# Altium footprint library SOT-89.PcbLib: 1 footprints
Each footprint in its own frame and in the unit in brackets; x right, y up, seen from the top. Pads: shape width x height; smd on the part's side, far side on the other; paste and mask are expansions set on the pad; w line width, h text height; cw(c..) or ccw(c..) is an arc to the next point about the centre after c.
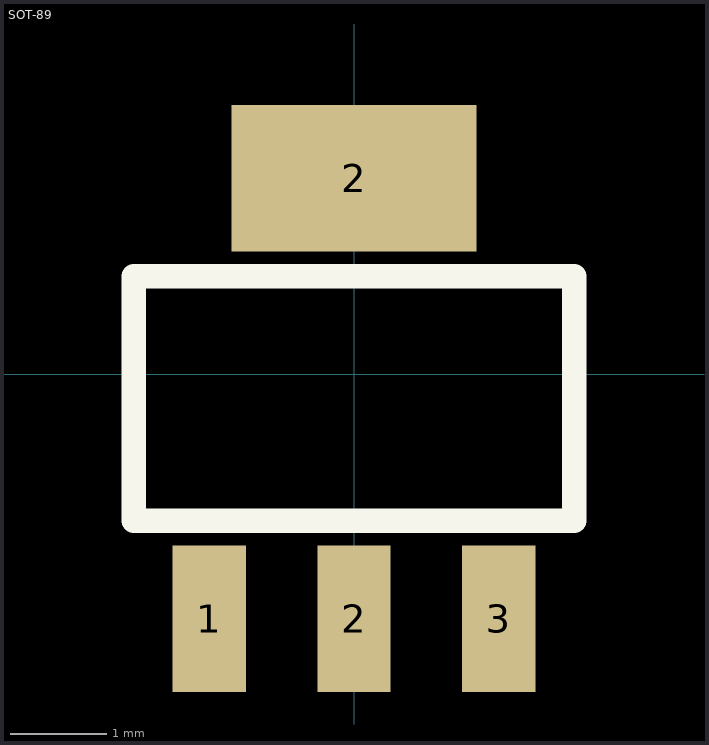
[diagram p0: the footprint, top view; thin cyan lines are the x and y axes]

## SOT-89 [mil] "SOT-89"
pads (4):
  rect 30x60 smd: 1(-59.06,-100) 2(0,-100) 3(59.06,-100)
  rect 100x60 smd: 2(0,80)
Top Overlay:
  lines w10: -90,-60 -90,40 90,40 90,-60 -90,-60